# Altium schematic symbol library SPW47N60C3.Schlib: 1 symbol
Pins are listed as number, name and electrical type; pins without a type are passive.

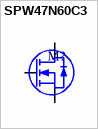
[diagram p0: symbol SPW47N60C3]

## SPW47N60C3
designator M?
650V 47A N-Channel
pins: 1 G, 2 D, 3 S